# EAGLE library part BLUEFRUIT-SPI-FRIEND (library sb2030_logger)
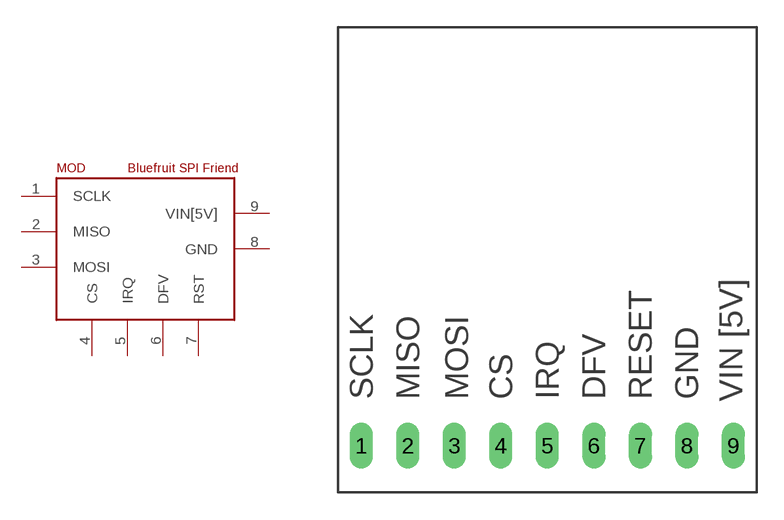
[diagram p4: symbol with the pads of BLE_SPIFRIEND; footprint BLE_SPIFRIEND]

Designator prefix MOD

## BLUEFRUIT-SPI-FRIEND  [BLE_SPIFRIEND]
1  SCLK
2  MISO
3  MOSI
4  CS
5  IRQ
6  DFV
7  RST
8  GND
9  VIN[5V]

## Footprint BLE_SPIFRIEND (pad centres in mm)
drill 0.75 long: 1 -10.16,-10.16; 2 -7.62,-10.16; 3 -5.08,-10.16; 4 -2.54,-10.16; 5 0,-10.16; 6 2.54,-10.16; 7 5.08,-10.16; 8 7.62,-10.16; 9 10.16,-10.16